# Altium schematic symbol library LCommonModeChoke.Schlib: 1 symbol
Pins are listed as number, name and electrical type; pins without a type are passive.

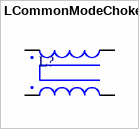
[diagram p0: symbol LCommonModeChoke]

## LCommonModeChoke
designator L?
pins: 1, 2, 3, 4